# EAGLE library part HARTING_ML_06 (library Steckverbinder - THT & SMD)
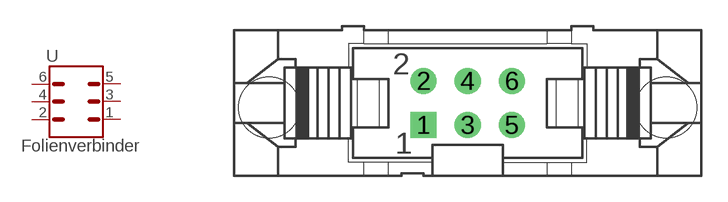
[diagram p1: symbol with the pads of HARTING_ML_06_GK; footprint HARTING_ML_06_GK]

Designator prefix -

## HARTING_ML_06  [HARTING_ML_06_GK]
1  1  pas
2  2  pas
3  3  pas
4  4  pas
5  5  pas
6  6  pas

## Footprint HARTING_ML_06_GK (pad centres in mm)
drill 1 square: 1 -2.54,-1.27
drill 1: 2 -2.54,1.27; 3 0,-1.27; 4 0,1.27; 5 2.54,-1.27; 6 2.54,1.27
hole 3.5 at 11.43,-0.254
hole 3.5 at -11.43,-0.254